# EAGLE library part SD-MOLEX-502774-0891 (library ubo_PQ60)
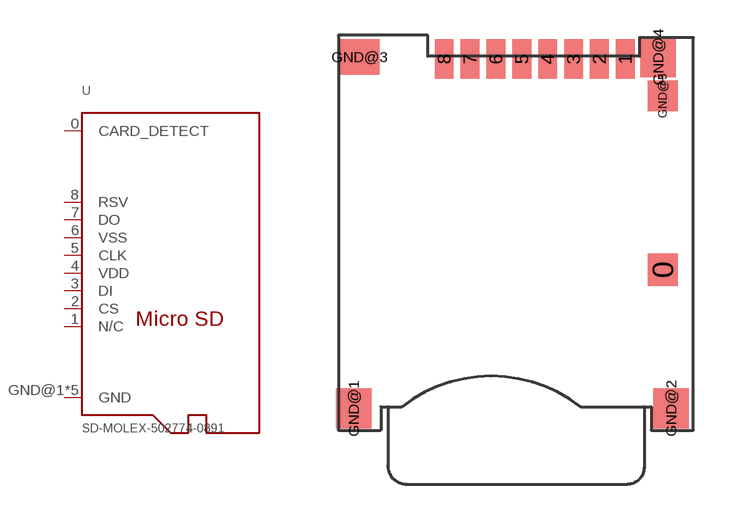
[diagram p12: symbol with the pads of SD-MOLEX-502774-0891; footprint SD-MOLEX-502774-0891]

Designator prefix -

## SD-MOLEX-502774-0891  [SD-MOLEX-502774-0891]
0  CARD_DETECT  pas
1  N/C  sup
2  CS  sup
3  DI
4  VDD
5  CLK  in
6  VSS  in
7  DO  in
8  RSV  out
GND@1  GND  sup
GND@2  GND  sup
GND@3  GND  sup
GND@4  GND  sup
GND@5  GND  sup

## Footprint SD-MOLEX-502774-0891 (pad centres in mm)
smd 1.29 x 1.4: 0 6.395,-1.575
smd 0.8 x 1.68: 1 4.8,7.385; 2 3.7,7.385; 3 2.6,7.385; 4 1.5,7.385; 5 0.4,7.385; 6 -0.7,7.385; 7 -1.8,7.385; 8 -2.9,7.385
smd 1.5 x 1.7: GND@1 -6.75,-7.475; GND@2 6.75,-7.475; GND@4 6.2,7.475
smd 1.7 x 1.5: GND@3 -6.5,7.475
smd 1.29 x 1.3: GND@5 6.395,5.825